# Altium schematic symbol library WPME-VDMM.SchLib: 10 symbols
Pins are listed as number, name and electrical type; pins without a type are passive.

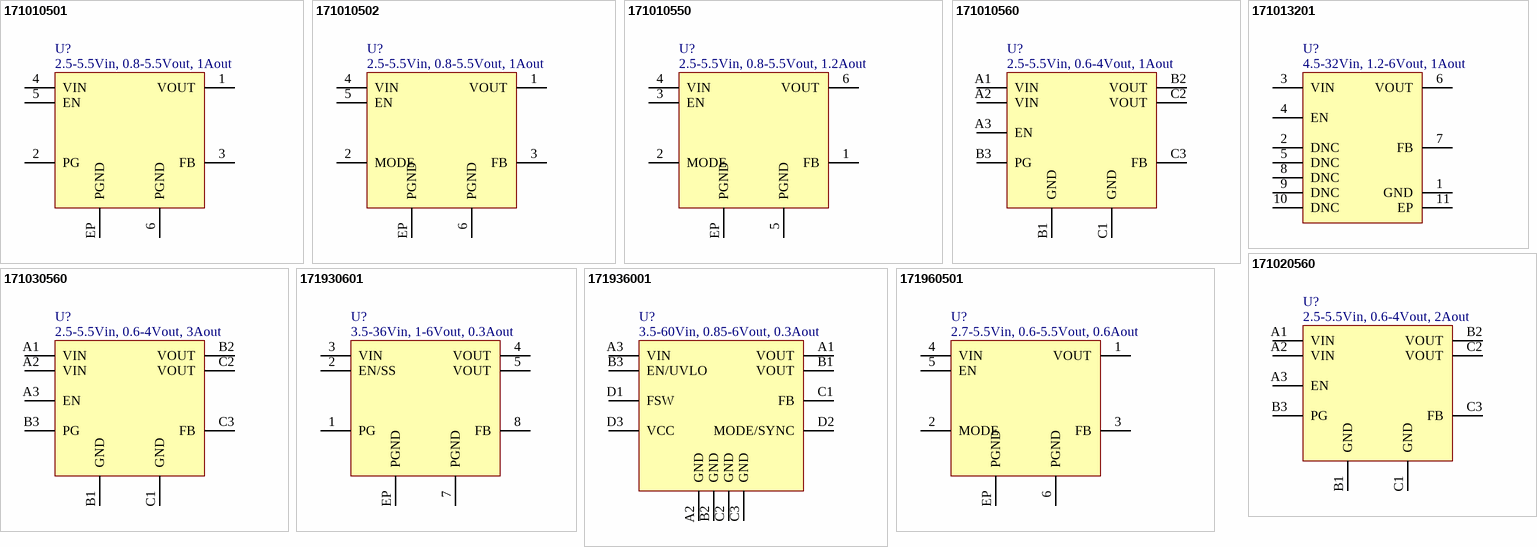
[diagram p0: symbols 171010501 to 171960501]

## 171010501
designator U?, comment 2.5-5.5Vin, 0.8-5.5Vout, 1Aout
WPME-VDMM Variable Step Down MicroModule, SMT, LGA-6EP, 2.5-5.5Vin, 0.8-5.5Vout, 1Aout; Manufacturer Part Number: 171010501; Manufacturer: Wurth Elektronik; Input Voltage Min: 2.5V; Input Voltage Max: 5.5V; Output Current: 1A; Output Voltage Min: 0.8V; Category: Step Down Converter; Match Code: WPME-VDMM; ComponentLink1Description: Website Link; ComponentLink1URL: https://www.we-online.com; ComponentLink2Description: Datasheet Link; ComponentLink2URL: https://www.we-online.com/components/products/datasheet/171010501; Mount: Surface Mount; Operating Temperature Min: -40degC; Operating Temperature Max: 125degC; Packaging: Tape and Reel; Case/Size Code: LGA-6EP; Length: 3.2mm; Width: 2.5mm; Height: 1.6mm; Output Voltage Max: 5.5V; Type: Open frame; Version: Power Good
footprint LGA-6EP_171010501
pins: 1 VOUT, 2 PG, 3 FB, 4 VIN, 5 EN, 6 PGND, EP PGND

## 171010502
designator U?, comment 2.5-5.5Vin, 0.8-5.5Vout, 1Aout
WPME-VDMM Variable Step Down MicroModule, SMT, LGA-6EP, 2.5-5.5Vin, 0.8-5.5Vout, 1Aout; Manufacturer Part Number: 171010502; Manufacturer: Wurth Elektronik; Input Voltage Min: 2.5V; Input Voltage Max: 5.5V; Output Current: 1A; Output Voltage Min: 0.8V; Category: Step Down Converter; Match Code: WPME-VDMM; ComponentLink1Description: Website Link; ComponentLink1URL: https://www.we-online.com; ComponentLink2Description: Datasheet Link; ComponentLink2URL: https://www.we-online.com/components/products/datasheet/171010502; Mount: Surface Mount; Operating Temperature Min: -40degC; Operating Temperature Max: 125degC; Packaging: Tape and Reel; Case/Size Code: LGA-6EP; Length: 3.2mm; Width: 2.5mm; Height: 1.6mm; Output Voltage Max: 5.5V; Type: Open frame; Version: Mode Select
footprint LGA-6EP_171010502
pins: 1 VOUT, 2 MODE, 3 FB, 4 VIN, 5 EN, 6 PGND, EP PGND

## 171010550
designator U?, comment 2.5-5.5Vin, 0.8-5.5Vout, 1.2Aout
WPME-VDMM Variable Step Down MicroModule, SMT, LGA-6EP, 2.5-5.5Vin, 0.8-5.5Vout, 1.2Aout; Manufacturer Part Number: 171010550; Manufacturer: Wurth Elektronik; Input Voltage Min: 2.5V; Input Voltage Max: 5.5V; Output Current: 1.2A; Output Voltage Min: 0.8V; Category: Step Down Converter; Match Code: WPME-VDMM; ComponentLink1Description: Website Link; ComponentLink1URL: https://www.we-online.com; ComponentLink2Description: Datasheet Link; ComponentLink2URL: https://www.we-online.com/components/products/datasheet/171010550; Mount: Surface Mount; Operating Temperature Min: -40degC; Operating Temperature Max: 125degC; Packaging: Tape and Reel; Case/Size Code: LGA-6EP; Length: 2.5mm; Width: 2.5mm; Height: 1.2mm; Output Voltage Max: 5.5V; Type: Overmolded; Version: Mode Select
footprint LGA-6EP_171010550
pins: 1 FB, 2 MODE, 3 EN, 4 VIN, 5 PGND, 6 VOUT, EP PGND

## 171010560
designator U?, comment 2.5-5.5Vin, 0.6-4Vout, 1Aout
WPME-VDMM Variable Step Down MicroModule, SMT, LGA-9, 2.5-5.5Vin, 0.6-4Vout, 1Aout; Manufacturer Part Number: 171010560; Manufacturer: Wurth Elektronik; Input Voltage Min: 2.5V; Input Voltage Max: 5.5V; Output Current: 1A; Output Voltage Min: 0.6V; Output Voltage Max: 4V; Category: Step Down Converter; Match Code: WPME-VDMM; ComponentLink1Description: Website Link; ComponentLink1URL: https://www.we-online.com; ComponentLink2Description: Datasheet Link; ComponentLink2URL: https://www.we-online.com/components/products/datasheet/171010560; Mount: Surface Mount; Operating Temperature Min: -40degC; Operating Temperature Max: 125degC; Packaging: Tape and Reel; Case/Size Code: LGA-9; Length: 3.5mm; Width: 3.5mm; Height: 1.5mm; Type: Overmolded; Version: Power Good
footprint LGA-9_171010560
pins: A1 VIN, A2 VIN, A3 EN, B1 GND, B2 VOUT, B3 PG, C1 GND, C2 VOUT, C3 FB

## 171013201
designator U?, comment 4.5-32Vin, 1.2-6Vout, 1Aout
WPME-VDMM Variable Step Down MicroModule, SMT, LGA-10, 4.5-32Vin, 1.2-6Vout, 1Aout; Manufacturer Part Number: 171013201; Manufacturer: Wurth Elektronik; Input Voltage Min: 4.5V; Input Voltage Max: 32V; Output Current: 1A; Output Voltage Min: 1.2V; Output Voltage Max: 6V; Category: Step Down Converter; Match Code: WPME-VDMM; ComponentLink1Description: Website Link; ComponentLink1URL: https://www.we-online.com; ComponentLink2Description: Datasheet Link; ComponentLink2URL: https://www.we-online.com/components/products/datasheet/171013201; Mount: Surface Mount; Operating Temperature Min: -40degC; Operating Temperature Max: 125degC; Packaging: Tape and Reel; Case/Size Code: LGA-10; Length: 3.8mm; Width: 3mm; Height: 1.8mm
footprint LGA-10_171013201
pins: 1 GND, 2 DNC, 3 VIN, 4 EN, 5 DNC, 6 VOUT, 7 FB, 8 DNC, 9 DNC, 10 DNC, 11 EP

## 171020560
designator U?, comment 2.5-5.5Vin, 0.6-4Vout, 2Aout
WPME-VDMM Variable Step Down MicroModule, SMT, LGA-9, 2.5-5.5Vin, 0.6-4Vout, 2Aout; Manufacturer Part Number: 171020560; Manufacturer: Wurth Elektronik; Input Voltage Min: 2.5V; Input Voltage Max: 5.5V; Output Current: 2A; Output Voltage Min: 0.6V; Output Voltage Max: 4V; Category: Step Down Converter; Match Code: WPME-VDMM; ComponentLink1Description: Website Link; ComponentLink1URL: https://www.we-online.com; ComponentLink2Description: Datasheet Link; ComponentLink2URL: https://www.we-online.com/components/products/datasheet/171020560; Mount: Surface Mount; Operating Temperature Min: -40degC; Operating Temperature Max: 125degC; Packaging: Tape and Reel; Case/Size Code: LGA-9; Length: 3.5mm; Width: 3.5mm; Height: 1.5mm; Type: Overmolded; Version: Power Good
footprint LGA-9_171020560
pins: A1 VIN, A2 VIN, A3 EN, B1 GND, B2 VOUT, B3 PG, C1 GND, C2 VOUT, C3 FB

## 171030560
designator U?, comment 2.5-5.5Vin, 0.6-4Vout, 3Aout
WPME-VDMM Variable Step Down MicroModule, SMT, LGA-9, 2.5-5.5Vin, 0.6-4Vout, 3Aout; Manufacturer Part Number: 171030560; Manufacturer: Wurth Elektronik; Input Voltage Min: 2.5V; Input Voltage Max: 5.5V; Output Current: 3A; Output Voltage Min: 0.6V; Output Voltage Max: 4V; Category: Step Down Converter; Match Code: WPME-VDMM; ComponentLink1Description: Website Link; ComponentLink1URL: https://www.we-online.com; ComponentLink2Description: Datasheet Link; ComponentLink2URL: https://www.we-online.com/components/products/datasheet/171030560; Mount: Surface Mount; Operating Temperature Min: -40degC; Operating Temperature Max: 125degC; Packaging: Tape and Reel; Case/Size Code: LGA-9; Length: 3.5mm; Width: 3.5mm; Height: 1.5mm; Type: Overmolded; Version: Power Good
footprint LGA-9_171030560
pins: A1 VIN, A2 VIN, A3 EN, B1 GND, B2 VOUT, B3 PG, C1 GND, C2 VOUT, C3 FB

## 171930601
designator U?, comment 3.5-36Vin, 1-6Vout, 0.3Aout
WPME-VDMM Variable Step Down MicroModule, SMT, LGA-8EP, 3.5-36Vin, 1-6Vout, 0.3Aout; Manufacturer Part Number: 171930601; Manufacturer: Wurth Elektronik; Input Voltage Min: 3.5V; Input Voltage Max: 36V; Output Current: 0.3A; Output Voltage Min: 1V; Output Voltage Max: 6V; Category: Step Down Converter; Match Code: WPME-VDMM; ComponentLink1Description: Website Link; ComponentLink1URL: https://www.we-online.com; ComponentLink2Description: Datasheet Link; ComponentLink2URL: https://www.we-online.com/components/products/datasheet/171930601; Mount: Surface Mount; Operating Temperature Min: -40degC; Operating Temperature Max: 125degC; Packaging: Tape and Reel; Case/Size Code: LGA-8EP; Length: 5mm; Width: 2.5mm; Height: 1.8mm; Type: Overmolded; Version: Power Good
footprint LGA-8EP_171930601
pins: 1 PG, 2 EN/SS, 3 VIN, 4 VOUT, 5 VOUT, 7 PGND, 8 FB, EP PGND

## 171936001
designator U?, comment 3.5-60Vin, 0.85-6Vout, 0.3Aout
WPME-VDMM Variable Step Down MicroModule, SMT, LGA-12, 3.5-60Vin, 0.85-6Vout, 0.3Aout; Manufacturer Part Number: 171936001; Manufacturer: Wurth Elektronik; Input Voltage Min: 3.5V; Input Voltage Max: 60V; Output Current: 0.3A; Output Voltage Min: 0.85V; Output Voltage Max: 6V; Category: Step Down Converter; Match Code: WPME-VDMM; ComponentLink1Description: Website Link; ComponentLink1URL: https://www.we-online.com; ComponentLink2Description: Datasheet Link; ComponentLink2URL: https://www.we-online.com/components/products/datasheet/171936001; Mount: Surface Mount; Operating Temperature Min: -40degC; Operating Temperature Max: 125degC; Packaging: Tape and Reel; Case/Size Code: LGA-12; Length: 8mm; Width: 5.5mm; Height: 2.4mm; Type: Overmolded; Version: Mode Select
footprint LGA-12_171936001
pins: A1 VOUT, A2 GND, A3 VIN, B1 VOUT, B2 GND, B3 EN/UVLO, C1 FB, C2 GND, C3 GND, D1 FSW, D2 MODE/SYNC, D3 VCC

## 171960501
designator U?, comment 2.7-5.5Vin, 0.6-5.5Vout, 0.6Aout
WPME-VDMM Variable Step Down MicroModule, SMT, LGA-6EP, 2.7-5.5Vin, 0.6-5.5Vout, 0.6Aout; Manufacturer Part Number: 171960501; Manufacturer: Wurth Elektronik; Input Voltage Min: 2.7V; Input Voltage Max: 5.5V; Output Current: 0.6A; Output Voltage Min: 0.6V; Category: Step Down Converter; Match Code: WPME-VDMM; ComponentLink1Description: Website Link; ComponentLink1URL: https://www.we-online.com; ComponentLink2Description: Datasheet Link; ComponentLink2URL: https://www.we-online.com/components/products/datasheet/171960501; Mount: Surface Mount; Operating Temperature Min: -40degC; Operating Temperature Max: 125degC; Packaging: Tape and Reel; Case/Size Code: LGA-6EP; Length: 3.2mm; Width: 2.5mm; Height: 1.6mm; Output Voltage Max: 5.5V; Type: Open frame; Version: Mode Select
footprint LGA-6EP_171960501
pins: 1 VOUT, 2 MODE, 3 FB, 4 VIN, 5 EN, 6 PGND, EP PGND